# Altium footprint library S5B-EH.PcbLib: 1 footprints
Each footprint in its own frame and in the unit in brackets; x right, y up, seen from the top. Pads: shape width x height; smd on the part's side, far side on the other; paste and mask are expansions set on the pad; w line width, h text height; cw(c..) or ccw(c..) is an arc to the next point about the centre after c.
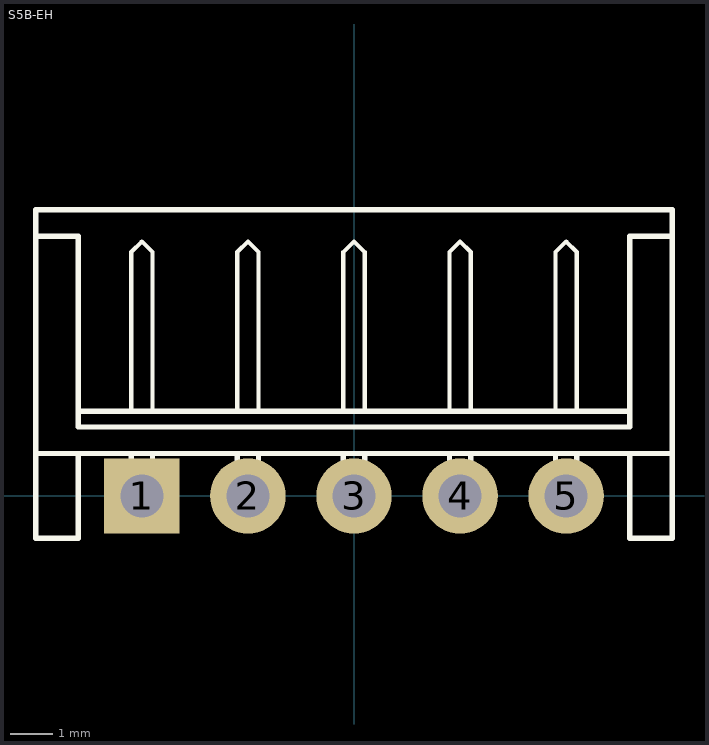
[diagram p0: the footprint, top view; thin cyan lines are the x and y axes]

## S5B-EH [mil] "EH Connector 2.5mm pitch, side entry"
height 165.35
pads (5):
  rect 70x70 hole 40: 1(-196.85,0)
  round 70 hole 40: 2(-98.42,0) 3(0,0) 4(98.43,0) 5(196.85,0)
TopOverlay:
  lines w4: -206.69,78.74 -206.69,226.38 -196.85,236.22 -187.01,226.38 -187.01,78.74 ; -108.27,78.74 -108.27,226.38 -98.42,236.22 -88.58,226.38 -88.58,78.74 ; -9.84,78.74 -9.84,226.38 0,236.22 9.84,226.38 9.84,78.74 ; 88.58,78.74 88.58,226.38 98.43,236.22 108.27,226.38 108.27,78.74 ; 187.01,78.74 187.01,226.38 196.85,236.22 206.69,226.38 206.69,78.74
  lines w5: -295.28,241.14 -255.91,241.14 -255.91,63.98 255.91,63.98 255.91,241.14 295.28,241.14 ; -255.91,78.74 255.91,78.74 ; -206.69,39.37 -206.69,-19.68 -187.01,-19.68 -187.01,39.37 ; -108.27,39.37 -108.27,-19.68 -88.58,-19.68 -88.58,39.37 ; -9.84,39.37 -9.84,-19.68 9.84,-19.68 9.84,39.37 ; 88.58,39.37 88.58,-19.68 108.27,-19.68 108.27,39.37 ; 187.01,39.37 187.01,-19.68 206.69,-19.68 206.69,39.37 ; -295.28,39.37 -255.91,39.37 ; -295.28,39.37 -295.28,-39.37 -255.91,-39.37 -255.91,39.37 ; -295.28,39.37 -295.28,265.75 295.28,265.75 295.28,39.37 ; -255.91,39.37 157.48,39.37 295.28,39.37 ; 295.28,39.37 255.91,39.37 255.91,-39.37 295.28,-39.37 295.28,39.37
3D body: height 165.35, standoff 0, extent -295.26,-39.35 -255.93,39.35
3D body: height 165.35, standoff 0, extent 255.93,-39.35 295.26,39.35
3D body: height 165.35, standoff 0, extent -295.26,39.39 295.26,241.12